# EAGLE library part OLIMEX_ENC (library OLIMEX-ENJ)
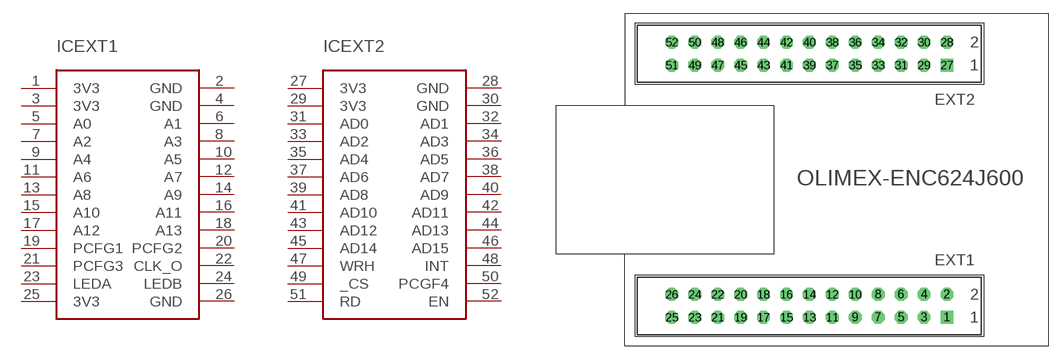
[diagram p0: symbol with the pads of OLIMEX-ENC624J600; footprint OLIMEX-ENC624J600]

Designator prefix IC; gates EXT1=OLIMEX-ENC_EXT1 EXT2=OLIMEX-ENC_EXT2

## OLIMEX_ENC  [OLIMEX-ENC624J600]
1  EXT1:3V3
2  EXT1:GND
3  EXT1:3V3
4  EXT1:GND
5  EXT1:A0
6  EXT1:A1
7  EXT1:A2
8  EXT1:A3
9  EXT1:A4
10  EXT1:A5
11  EXT1:A6
12  EXT1:A7
13  EXT1:A8
14  EXT1:A9
15  EXT1:A10
16  EXT1:A11
17  EXT1:A12
18  EXT1:A13
19  EXT1:PCFG1
20  EXT1:PCFG2
21  EXT1:PCFG3
22  EXT1:CLK_O
23  EXT1:LEDA
24  EXT1:LEDB
25  EXT1:3V3
26  EXT1:GND
27  EXT2:3V3
28  EXT2:GND
29  EXT2:3V3
30  EXT2:GND
31  EXT2:AD0
32  EXT2:AD1
33  EXT2:AD2
34  EXT2:AD3
35  EXT2:AD4
36  EXT2:AD5
37  EXT2:AD6
38  EXT2:AD7
39  EXT2:AD8
40  EXT2:AD9
41  EXT2:AD10
42  EXT2:AD11
43  EXT2:AD12
44  EXT2:AD13
45  EXT2:AD14
46  EXT2:AD15
47  EXT2:WRH
48  EXT2:INT
49  EXT2:_CS
50  EXT2:PCGF4
51  EXT2:RD
52  EXT2:EN

## Footprint OLIMEX-ENC624J600 (pad centres in mm)
drill 0.914 square: 1 35.56,2.54; 27 35.56,30.48
drill 0.914 octagon: 2 35.56,5.08; 3 33.02,2.54; 4 33.02,5.08; 5 30.48,2.54; 6 30.48,5.08; 7 27.94,2.54; 8 27.94,5.08; 9 25.4,2.54; 10 25.4,5.08; 11 22.86,2.54; 12 22.86,5.08; 13 20.32,2.54; 14 20.32,5.08; 15 17.78,2.54; 16 17.78,5.08; 17 15.24,2.54; 18 15.24,5.08; 19 12.7,2.54; 20 12.7,5.08; 21 10.16,2.54; 22 10.16,5.08; 23 7.62,2.54; 24 7.62,5.08; 25 5.08,2.54; 26 5.08,5.08; 28 35.56,33.02; 29 33.02,30.48; 30 33.02,33.02; 31 30.48,30.48; 32 30.48,33.02; 33 27.94,30.48; 34 27.94,33.02; 35 25.4,30.48; 36 25.4,33.02; 37 22.86,30.48; 38 22.86,33.02; 39 20.32,30.48; 40 20.32,33.02; 41 17.78,30.48; 42 17.78,33.02; 43 15.24,30.48; 44 15.24,33.02; 45 12.7,30.48; 46 12.7,33.02; 47 10.16,30.48; 48 10.16,33.02; 49 7.62,30.48; 50 7.62,33.02; 51 5.08,30.48; 52 5.08,33.02